# EAGLE library part 36PIN_BREAKOUT (library kmod-connectors)
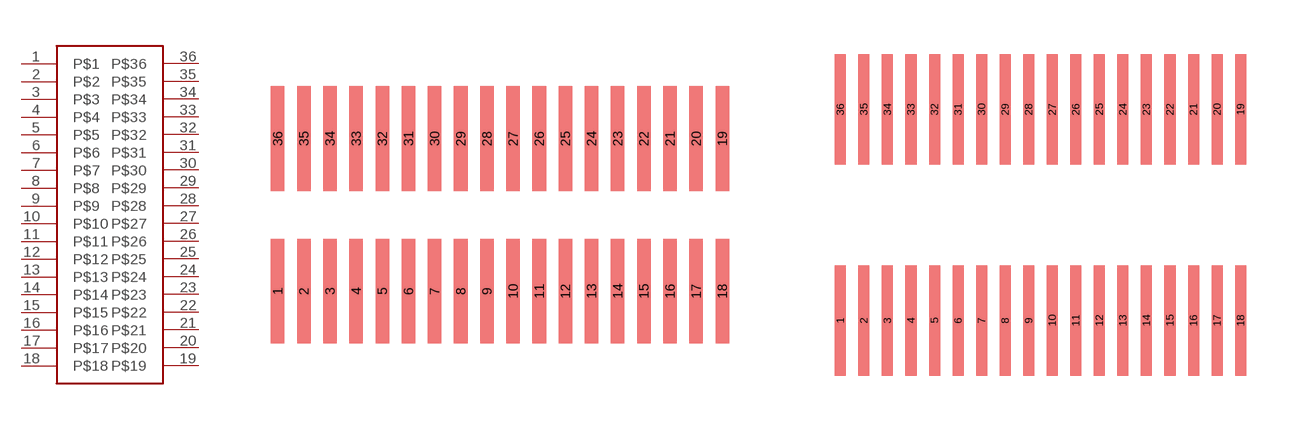
[diagram p2: symbol with the pads of SOIC-8-36-BREAKOUT; footprints SOIC-8-36-BREAKOUT, TSSOP-8-36-BREAKOUT]

Designator prefix -

## 36PIN_BREAKOUTSOIC  [SOIC-8-36-BREAKOUT]
1  P$1
2  P$2
3  P$3
4  P$4
5  P$5
6  P$6
7  P$7
8  P$8
9  P$9
10  P$10
11  P$11
12  P$12
13  P$13
14  P$14
15  P$15
16  P$16
17  P$17
18  P$18
19  P$19
20  P$20
21  P$21
22  P$22
23  P$23
24  P$24
25  P$25
26  P$26
27  P$27
28  P$28
29  P$29
30  P$30
31  P$31
32  P$32
33  P$33
34  P$34
35  P$35
36  P$36

## 36PIN_BREAKOUTTSSOP  [TSSOP-8-36-BREAKOUT]
Pads as for SOIC-8-36-BREAKOUT

## Footprint SOIC-8-36-BREAKOUT (pad centres in mm)
smd 0.66 x 5.08: 1 -10.795,-3.708; 2 -9.525,-3.708; 3 -8.255,-3.708; 4 -6.985,-3.708; 5 -5.715,-3.708; 6 -4.445,-3.708; 7 -3.175,-3.708; 8 -1.905,-3.708; 9 -0.635,-3.708; 10 0.635,-3.708; 11 1.905,-3.708; 12 3.175,-3.708; 13 4.445,-3.708; 14 5.715,-3.708; 15 6.985,-3.708; 16 8.255,-3.708; 17 9.525,-3.708; 18 10.795,-3.708; 19 10.795,3.708; 20 9.525,3.708; 21 8.255,3.708; 22 6.985,3.708; 23 5.715,3.708; 24 4.445,3.708; 25 3.175,3.708; 26 1.905,3.708; 27 0.635,3.708; 28 -0.635,3.708; 29 -1.905,3.708; 30 -3.175,3.708; 31 -4.445,3.708; 32 -5.715,3.708; 33 -6.985,3.708; 34 -8.255,3.708; 35 -9.525,3.708; 36 -10.795,3.708

## Footprint TSSOP-8-36-BREAKOUT (pad centres in mm)
TSSOP flexible footprint, 8-36 pins Haven't tested it
smd 0.305 x 3.048: 1 -5.525,-2.918; 2 -4.875,-2.918; 3 -4.225,-2.918; 4 -3.575,-2.918; 5 -2.925,-2.918; 6 -2.275,-2.918; 7 -1.625,-2.918; 8 -0.975,-2.918; 9 -0.325,-2.918; 10 0.325,-2.918; 11 0.975,-2.918; 12 1.625,-2.918; 13 2.275,-2.918; 14 2.925,-2.918; 15 3.575,-2.918; 16 4.225,-2.918; 17 4.875,-2.918; 18 5.525,-2.918; 19 5.525,2.918; 20 4.875,2.918; 21 4.225,2.918; 22 3.575,2.918; 23 2.925,2.918; 24 2.275,2.918; 25 1.625,2.918; 26 0.975,2.918; 27 0.325,2.918; 28 -0.325,2.918; 29 -0.975,2.918; 30 -1.625,2.918; 31 -2.275,2.918; 32 -2.925,2.918; 33 -3.575,2.918; 34 -4.225,2.918; 35 -4.875,2.918; 36 -5.525,2.918